# EAGLE library part SENSEAIR_S8 (library SenseAir S8)
MH-z19 Footprint EAGLE footprint of MH-z19 CO2 sensor. Designed by AKstudios github.com/akstudios
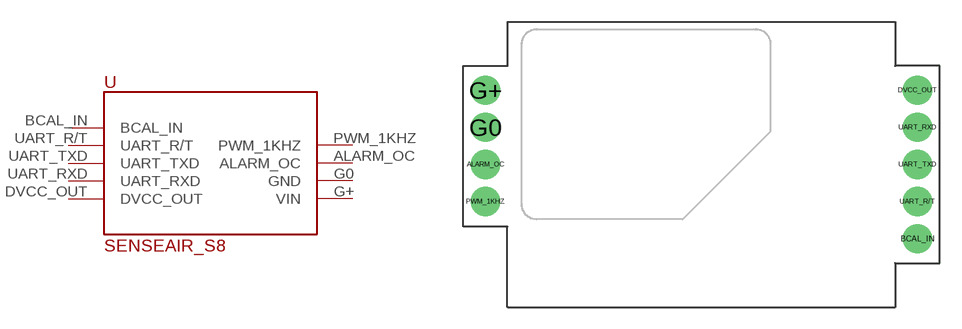
[diagram p0: symbol with the pads of SENSEAIR_S8; footprint SENSEAIR_S8]

Designator prefix -

## SENSEAIR_S8  [SENSEAIR_S8]
ALARM_OC  ALARM_OC
BCAL_IN  BCAL_IN
DVCC_OUT  DVCC_OUT
G0  GND
G+  VIN
PWM_1KHZ  PWM_1KHZ
UART_R/T  UART_R/T
UART_RXD  UART_RXD
UART_TXD  UART_TXD

## Footprint SENSEAIR_S8 (pad centres in mm)
drill 1 pad 2: ALARM_OC 1.515,9.75; BCAL_IN 31.055,4.67; DVCC_OUT 31.055,14.83; G0 1.515,12.29; G+ 1.515,14.83; PWM_1KHZ 1.515,7.21; UART_R/T 31.055,7.21; UART_RXD 31.055,12.29; UART_TXD 31.055,9.75